# Altium schematic symbol library CD40.SchLib: 22 symbols
Pins are listed as number, name and electrical type; pins without a type are passive.

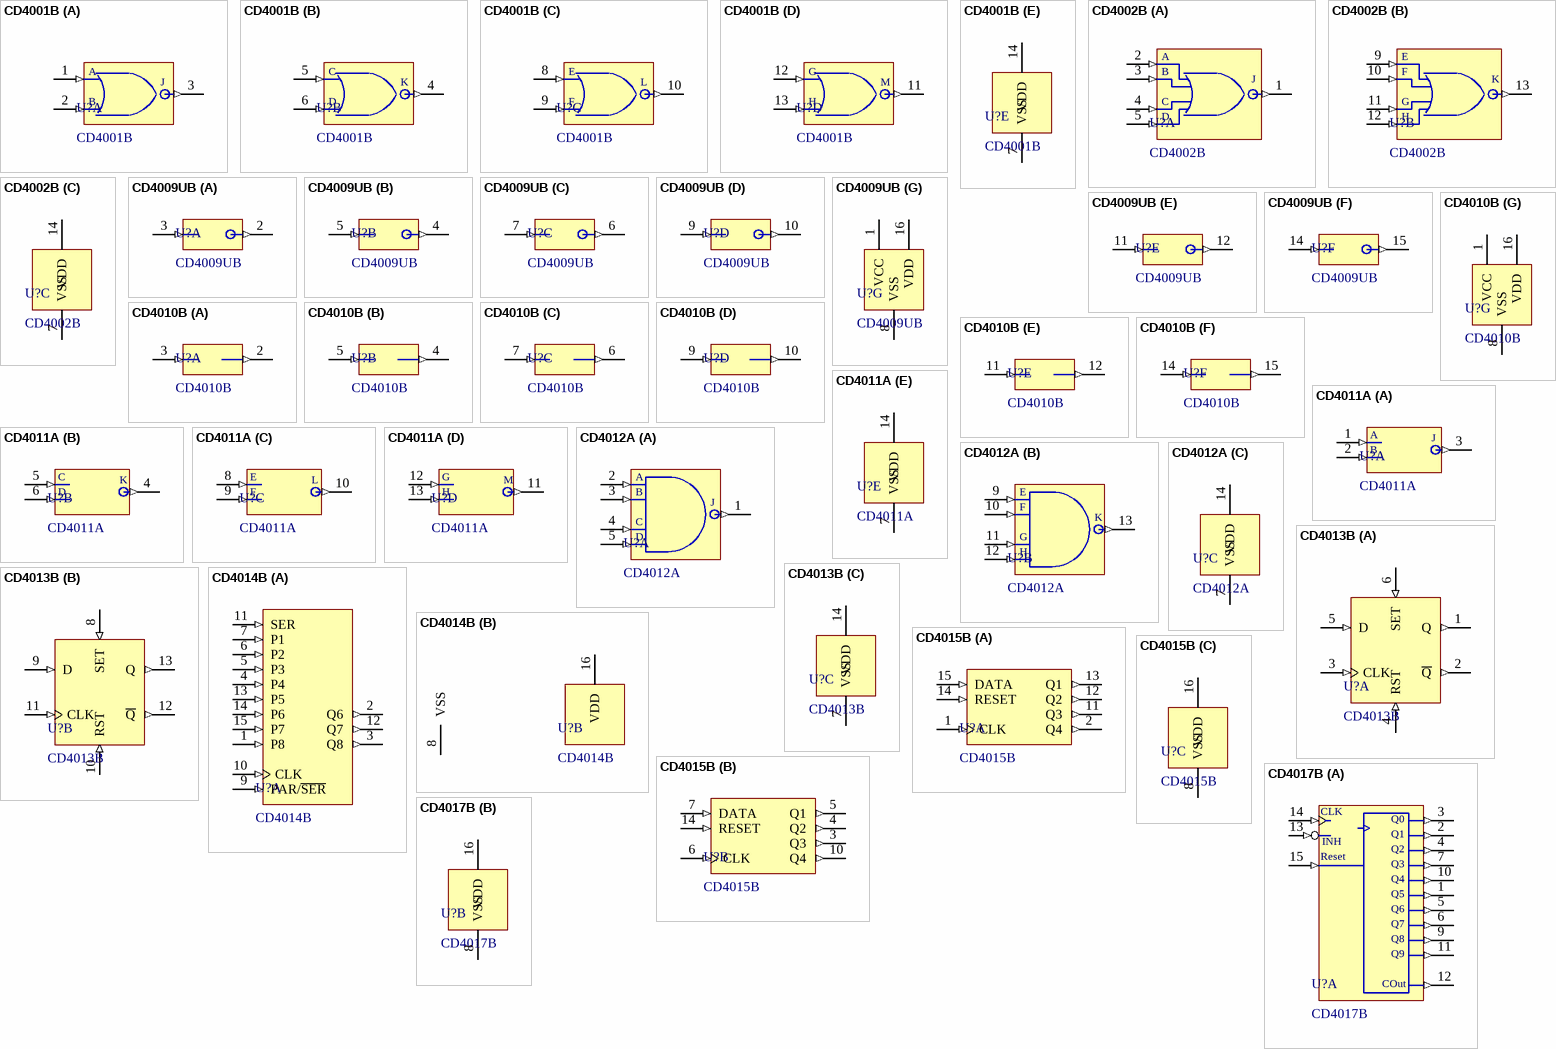
[diagram p0: symbols CD4001B to CD4017B]

## CD4001B
designator U?
Quad 2-Input CMOS NOR Gates
footprint CDIP14
footprint SOIC14
part A pins: 1 A (in), 2 B (in), 3 J (out)
part B pins: 4 K (out), 5 C (in), 6 D (in)
part C pins: 8 E (in), 9 F (in), 10 L (out)
part D pins: 11 M (out), 12 G (in), 13 H (in)
part E pins: 7 VSS (power), 14 VDD (power)

## CD4002B
designator U?
Dual 4-Input CMOS NOR Gates
footprint CDIP14
footprint SOIC14
part A pins: 1 J (out), 2 A (in), 3 B (in), 4 C (in), 5 D (in)
part B pins: 9 E (in), 10 F (in), 11 G (in), 12 H (in), 13 K (out)
part C pins: 7 VSS (power), 14 VDD (power)

## CD4009UB
designator U?
CMOS Hex Buffers/Converters Inverting Type
footprint PDIP16
footprint SOIC16
footprint TSSOP16
part A pins: 2 Y (out), 3 A (in)
part B pins: 4 Y (out), 5 A (in)
part C pins: 6 Y (out), 7 A (in)
part D pins: 9 A (in), 10 Y (out)
part E pins: 11 A (in), 12 Y (out)
part F pins: 14 A (in), 15 Y (out)
part G pins: 1 VCC (power), 8 VSS (power), 16 VDD (power)

## CD4010B
designator U?
CMOS Hex Buffers/Converters Non-Inverting Type
footprint PDIP16
footprint SOIC16
footprint TSSOP16
part A pins: 2 Y (out), 3 A (in)
part B pins: 4 Y (out), 5 A (in)
part C pins: 6 Y (out), 7 A (in)
part D pins: 9 A (in), 10 Y (out)
part E pins: 11 A (in), 12 Y (out)
part F pins: 14 A (in), 15 Y (out)
part G pins: 1 VCC (power), 8 VSS (power), 16 VDD (power)

## CD4011A
designator U?
Quad 2-Input CMOS NAND Gates
footprint CDIP14
footprint SOIC14
footprint TSSOP14
part A pins: 1 A (in), 2 B (in), 3 J (out)
part B pins: 4 K (out), 5 C (in), 6 D (in)
part C pins: 8 E (in), 9 F (in), 10 L (out)
part D pins: 11 M (out), 12 G (in), 13 H (in)
part E pins: 7 VSS (power), 14 VDD (power)

## CD4012A
designator U?
Dual 4-Input CMOS NAND Gates
footprint CDIP14
footprint SOIC14
footprint TSSOP14
part A pins: 1 J (out), 2 A (in), 3 A (in), 4 C (in), 5 D (in)
part B pins: 9 E (in), 10 F (in), 11 G (in), 12 H (in), 13 K (out)
part C pins: 7 VSS (power), 14 VDD (power)
part A text: B

## CD4013B
designator U?
CMOS Dual D-Type Flip-Flop
footprint CDIP14
footprint SOIC14
footprint TSSOP14
part A pins: 1 Q (out), 2 ~{Q} (out), 3 CLK (in), 4 RST (in), 5 D (in), 6 SET (in)
part B pins: 8 SET (in), 9 D (in), 10 RST (in), 11 CLK (in), 12 ~{Q} (out), 13 Q (out)
part C pins: 7 VSS (power), 14 VDD (power)

## CD4014B
designator U?
CMOS 8-Stage Static Shift Registers
footprint PDIP16
footprint SOIC16
footprint TSSOP16
part A pins: 1 P8 (in), 2 Q6 (out), 3 Q8 (out), 4 P4 (in), 5 P3 (in), 6 P2 (in), 7 P1 (in), 9 PAR/~{SER} (in), 10 CLK (in), 11 SER (in), 12 Q7 (out), 13 P5 (in), 14 P6 (in), 15 P7 (in)
part B pins: 8 VSS (power), 16 VDD (power)

## CD4015B
designator U?
CMOS Dual 4-Stage Static Shift Register
footprint PDIP16
footprint SOIC16
footprint TSSOP16
part A pins: 1 CLK (in) "Clock", 2 Q4 (out), 11 Q3 (out), 12 Q2 (out), 13 Q1 (out), 14 RESET (in) "Clock Inhibit", 15 DATA (in) "Reset"
part B pins: 3 Q3 (out), 4 Q2 (out), 5 Q1 (out), 6 CLK (in) "Clock", 7 DATA (in) "Reset", 10 Q4 (out), 14 RESET (in) "Clock Inhibit"
part C pins: 8 VSS (power), 16 VDD (power)

## CD4017B
designator U?
Decade Counter with 10 Decoded Outputs
footprint PDIP16
footprint SOIC16
footprint TSSOP16
part A pins: 1 Q5 (out), 2 Q1 (out), 3 Q0 (out), 4 Q2 (out), 5 Q6 (out), 6 Q7 (out), 7 Q3 (out), 9 Q8 (out), 10 Q4 (out), 11 Q9 (out), 12 COUT (out) "Carry Out", 13 CLKINH (in) "Clock Inhibit", 14 CLK (in) "Clock", 15 RST (in) "Reset"
part B pins: 8 VSS (power), 16 VDD (power)
part A text: INH; Reset; COut

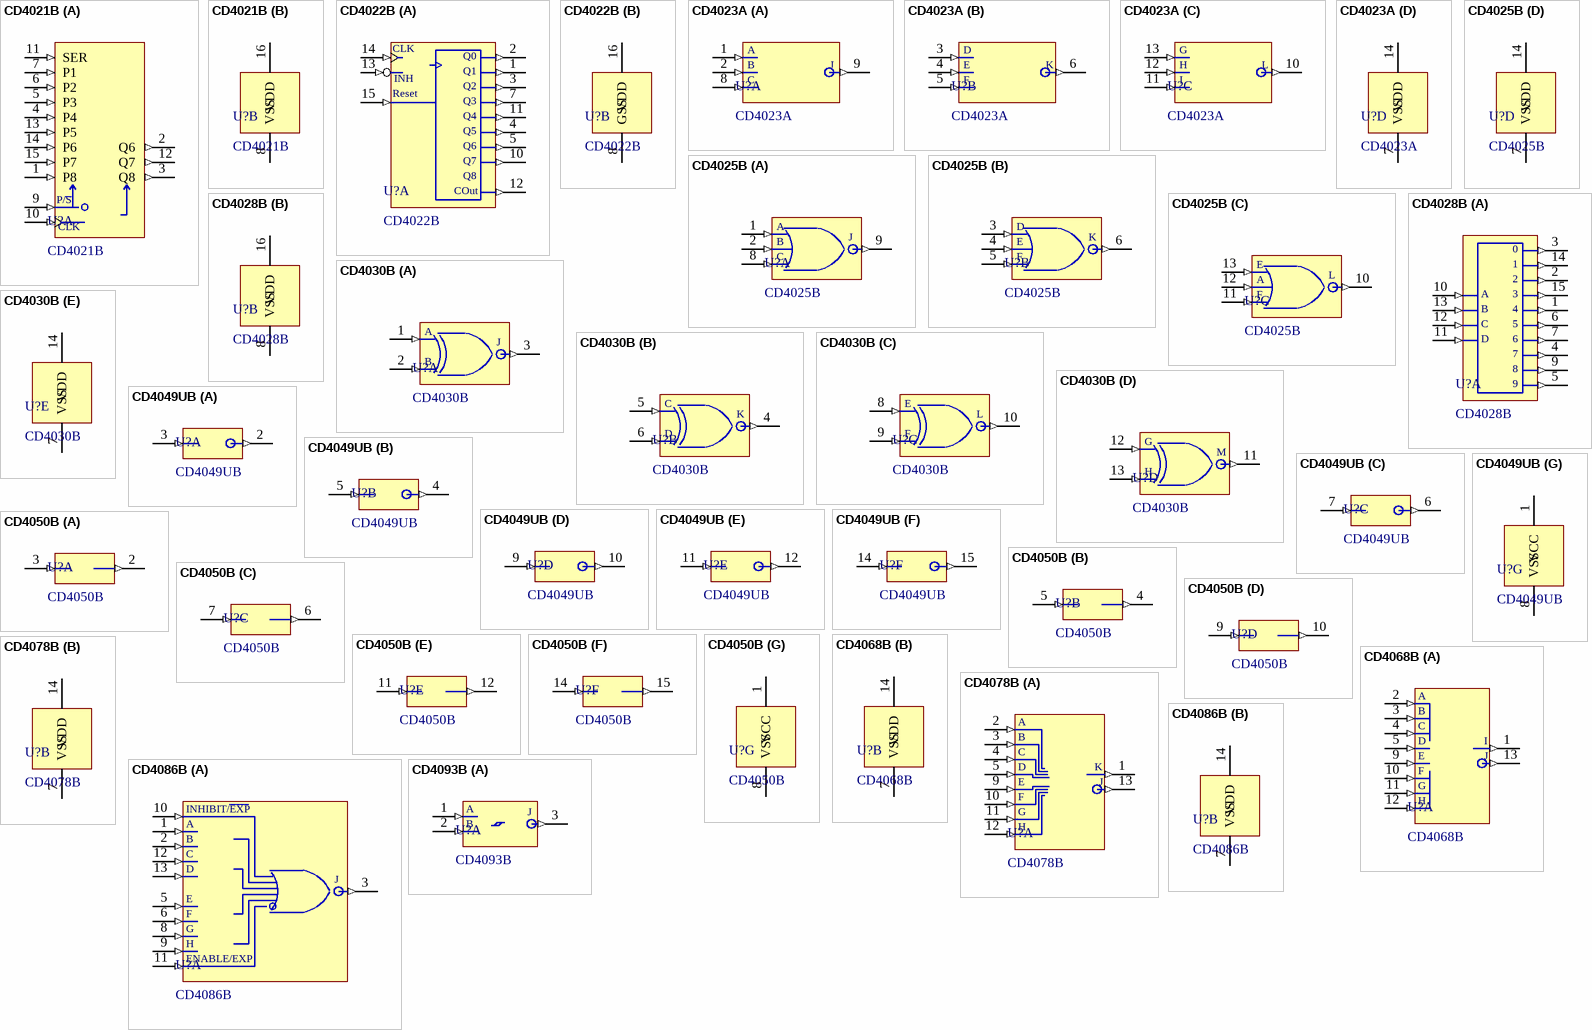
[diagram p1: symbols CD4021B to CD4093B]

## CD4021B
designator U?
CMOS 8-Stage Static Shift Registers
footprint PDIP16
footprint SOIC16
footprint TSSOP16
part A pins: 1 P8 (in), 2 Q6 (out), 3 Q8 (out), 4 P4 (in), 5 P3 (in), 6 P2 (in), 7 P1 (in), 9 PAR/~{SER} (in), 10 CLK (in), 11 SER (in), 12 Q7 (out), 13 P5 (in), 14 P6 (in), 15 P7 (in)
part B pins: 8 VSS (power), 16 VDD (power)
part A text: P/S

## CD4022B
designator U?
Octal Counter with 8 Decoded Outputs
footprint PDIP16
footprint SOIC16
footprint TSSOP16
part A pins: 1 Q1 (out), 2 Q0 (out), 3 Q2 (out), 4 Q5 (out), 5 Q6 (out), 7 Q3 (out), 10 Q7 (out), 11 Q4 (out), 12 COUT (out) "Carry Out", 13 CLKINH (in) "Clock Inhibit", 14 CLK (in) "Clock", 15 RST (in) "Reset"
part B pins: 8 GSS (power), 16 VDD (power)
part A text: INH; Reset; Q8; COut

## CD4023A
designator U?
Triple 3-Input CMOS NAND Gates
footprint CDIP14
footprint SOIC14
footprint TSSOP14
part A pins: 1 A (in), 2 B (in), 8 C (in), 9 J (out)
part B pins: 3 D (in), 4 E (in), 5 F (in), 6 K (out)
part C pins: 10 L (out), 11 I (in), 12 H (in), 13 G (in)
part D pins: 7 VSS (power), 14 VDD (power)

## CD4025B
designator U?
Triple 3-Input CMOS NOR Gates
footprint CDIP14
footprint SOIC14
part A pins: 1 A (in), 2 B (in), 8 C (in), 9 J (out)
part B pins: 3 D (in), 4 E (in), 5 F (in), 6 K (out)
part C pins: 10 L (out), 11 I (in), 12 H (in), 13 G (in)
part D pins: 7 VSS (power), 14 VDD (power)

## CD4028B
designator U?
BCD-to-Decimal Decoder
footprint PDIP16
footprint SOIC16
footprint TSSOP16
part A pins: 1 4 (out), 2 (out), 3 0 (out), 4 7 (out), 5 9 (out), 6 5 (out), 7 6 (out), 9 8 (out), 10 A (in), 11 D (in), 12 C (in), 13 B (in), 14 1 (out), 15 3 (out)
part B pins: 8 VSS (power), 16 VDD (power)

## CD4030B
designator U?
Quad 2-Input CMOS Exclusive-OR Gate
footprint CDIP14
footprint SOIC14
footprint TSSOP14
part A pins: 1 A (in), 2 B (in), 3 J (out)
part B pins: 4 K (out), 5 C (in), 6 D (in)
part C pins: 8 E (in), 9 F (in), 10 L (out)
part D pins: 11 M (out), 12 G (in), 13 H (in)
part E pins: 7 VSS (power), 14 VDD (power)

## CD4049UB
designator U?
CMOS Hex Buffers/Converters Inverting Type
footprint PDIP16
footprint SOIC16
footprint TSSOP16
part A pins: 2 Y (out), 3 A (in)
part B pins: 4 Y (out), 5 A (in)
part C pins: 6 Y (out), 7 A (in)
part D pins: 9 A (in), 10 Y (out)
part E pins: 11 A (in), 12 Y (out)
part F pins: 14 A (in), 15 Y (out)
part G pins: 1 VCC (power), 8 VSS (power)

## CD4050B
designator U?
CMOS Hex Buffers/Converters Non-Inverting Type
footprint PDIP16
footprint SOIC16
footprint TSSOP16
part A pins: 2 Y (out), 3 A (in)
part B pins: 4 Y (out), 5 A (in)
part C pins: 6 Y (out), 7 A (in)
part D pins: 9 A (in), 10 Y (out)
part E pins: 11 A (in), 12 Y (out)
part F pins: 14 A (in), 15 Y (out)
part G pins: 1 VCC (power), 8 VSS (power)

## CD4068B
designator U?
CMOS 8-Input NAND/AND Gate
footprint CDIP14
footprint SOIC14
footprint TSSOP14
part A pins: 1 I (out), 2 A (in), 3 B (in), 4 C (in), 5 D (in), 9 E (in), 10 F (in), 11 G (in), 12 H (in), 13 J (out)
part B pins: 7 VSS (power), 14 VDD (power)

## CD4078B
designator U?
CMOS 8-Input NOR/OR Gate
footprint CDIP14
footprint SOIC14
footprint TSSOP14
part A pins: 1 K (out), 2 A (in), 3 B (in), 4 C (in), 5 D (in), 9 E (in), 10 F (in), 11 G (in), 12 H (in), 13 J (out)
part B pins: 7 VSS (power), 14 VDD (power)

## CD4086B
designator U?
CMOS Expandable 4-Wide 2-Input AND-OR-INVERT Gate
footprint CDIP14
footprint SOIC14
part A pins: 1 A (in), 2 B (in), 3 J (out), 5 E (in), 6 F (in), 8 G (in), 9 H (in), 10 INHIBIT/~{EXP} (in), 11 ENABLE/EXP (in), 12 C (in), 13 D (in)
part B pins: 7 VSS (power), 14 VDD (power)
part A text: INHIBIT/EXP

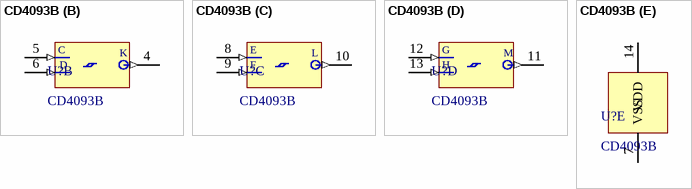
[diagram p2: symbol CD4093B]

## CD4093B
designator U?
CMOS Quad 2 Input NAND Schmitt-Triggers
footprint CDIP14
footprint SOIC14
footprint TSSOP14
part A pins: 1 A (in), 2 B (in), 3 J (out)
part B pins: 4 K (out), 5 C (in), 6 D (in)
part C pins: 8 E (in), 9 F (in), 10 L (out)
part D pins: 11 M (out), 12 G (in), 13 H (in)
part E pins: 7 VSS (power), 14 VDD (power)